# Altium footprint library SolderJumper.PcbLib: 8 footprints
Each footprint in its own frame and in the unit in brackets; x right, y up, seen from the top. Pads: shape width x height; smd on the part's side, far side on the other; paste and mask are expansions set on the pad; w line width, h text height; cw(c..) or ccw(c..) is an arc to the next point about the centre after c.
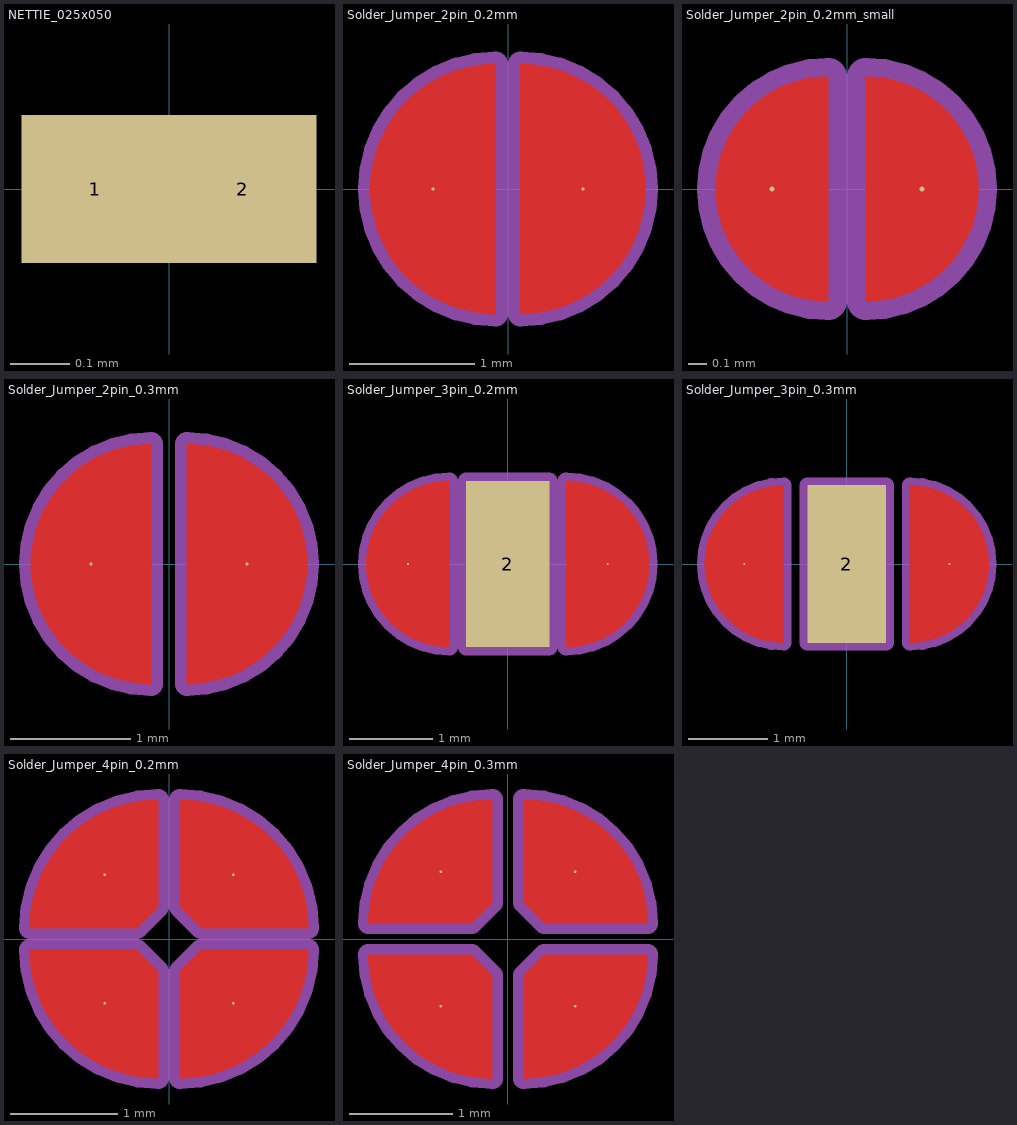
[diagram p0: the footprints below, top view; thin cyan lines are the x and y axes]

## NETTIE_025x050 [mm]
pads (2):
  rect 0.25x0.25 smd paste-2539.97 mask+0.102: 1(-0.125,0) 2(0.125,0)

## Solder_Jumper_2pin_0.2mm [mil] "Solder jumper with two pins with a spacing of 0.2mm"
pads (2):
  round 1 smd paste-99999: 1(-23.62,0) 2(23.62,0)
Top Layer:
  region: 3.94,-39.37 6.52,-39.37 11.63,-38.7 16.62,-37.36 21.39,-35.39 25.86,-32.81 29.95,-29.66 33.6,-26.01 36.74,-21.92 39.32,-17.45 41.3,-12.68 42.63,-7.7 43.31,-2.58 43.31,0 43.31,2.58 42.63,7.7 41.3,12.68 39.32,17.45 36.74,21.92 33.6,26.01 29.95,29.66 25.86,32.81 21.39,35.39 16.62,37.36 11.63,38.7 6.52,39.37 3.94,39.37
  region: -3.94,39.37 -6.52,39.37 -11.63,38.7 -16.62,37.36 -21.39,35.39 -25.86,32.81 -29.95,29.66 -33.6,26.01 -36.74,21.92 -39.32,17.45 -41.3,12.68 -42.63,7.7 -43.31,2.58 -43.31,0 -43.31,-2.58 -42.63,-7.7 -41.3,-12.68 -39.32,-17.45 -36.74,-21.92 -33.6,-26.01 -29.95,-29.66 -25.86,-32.81 -21.39,-35.39 -16.62,-37.36 -11.63,-38.7 -6.52,-39.37 -3.94,-39.37
Top Solder:
  region: -3.94,43.31 -8.2,43.31 -16.57,41.64 -24.45,38.38 -31.54,33.64 -37.58,27.61 -42.32,20.51 -45.58,12.63 -47.24,4.27 -47.24,0 -47.24,-4.27 -45.58,-12.63 -42.32,-20.51 -37.58,-27.61 -31.54,-33.64 -24.45,-38.38 -16.57,-41.64 -8.2,-43.31 -3.94,-43.31 3.94,-43.31 8.2,-43.31 16.57,-41.64 24.45,-38.38 31.54,-33.64 37.58,-27.61 42.32,-20.51 45.58,-12.63 47.24,-4.27 47.24,0 47.24,4.27 45.58,12.63 42.32,20.51 37.58,27.61 31.54,33.64 24.45,38.38 16.57,41.64 8.2,43.31 3.94,43.31
Top Assembly:
  lines w7.87: -43.31,0 ccw(c-3.94,0) -3.94,-39.37 -3.94,39.37 ccw(c-3.94,0) -43.31,0 ; 3.94,-39.37 ccw(c3.94,0) 43.31,0 ccw(c3.94,0) 3.94,39.37 3.94,-39.37

## Solder_Jumper_2pin_0.2mm_small [mil] "Solder jumper with two pins with a spacing of 0.2mm"
pads (2):
  round 1 smd paste-99999: 1(-15.75,0) 2(15.75,0)
Top Layer:
  region: -3.94,23.62 -5.49,23.62 -8.56,23.22 -11.55,22.42 -14.41,21.23 -17.09,19.68 -19.55,17.8 -21.74,15.61 -23.62,13.15 -25.17,10.47 -26.35,7.61 -27.16,4.62 -27.56,1.55 -27.56,0 -27.56,-1.55 -27.16,-4.62 -26.35,-7.61 -25.17,-10.47 -23.62,-13.15 -21.74,-15.61 -19.55,-17.8 -17.09,-19.68 -14.41,-21.23 -11.55,-22.42 -8.56,-23.22 -5.49,-23.62 -3.94,-23.62
  region: 3.94,-23.62 5.49,-23.62 8.56,-23.22 11.55,-22.42 14.41,-21.23 17.09,-19.68 19.55,-17.8 21.73,-15.61 23.62,-13.15 25.17,-10.47 26.35,-7.61 27.15,-4.62 27.56,-1.55 27.56,0 27.56,1.55 27.15,4.62 26.35,7.61 25.17,10.47 23.62,13.15 21.74,15.61 19.55,17.8 17.09,19.68 14.41,21.23 11.55,22.42 8.56,23.22 5.49,23.62 3.94,23.62
Top Solder:
  region: -3.94,27.56 -6.65,27.56 -11.98,26.51 -17,24.43 -21.52,21.42 -25.36,17.58 -28.37,13.06 -30.45,8.04 -31.5,2.71 -31.5,0 -31.5,-2.71 -30.44,-8.04 -28.36,-13.05 -25.35,-17.57 -21.51,-21.41 -16.99,-24.42 -11.98,-26.5 -6.65,-27.56 -3.94,-27.56 3.94,-27.56 6.65,-27.56 11.98,-26.5 16.99,-24.42 21.5,-21.41 25.34,-17.57 28.36,-13.05 30.44,-8.04 31.5,-2.71 31.5,0 31.5,2.71 30.44,8.04 28.36,13.05 25.34,17.57 21.51,21.41 16.99,24.42 11.98,26.5 6.65,27.56 3.94,27.56
Top Assembly:
  lines w7.87: -3.94,23.62 ccw(c-3.94,0) -27.56,0 ccw(c-3.94,0) -3.94,-23.62 -3.94,23.62 ; -3.94,23.62 ccw(c-3.94,23.62) -3.94,23.62 ; -3.94,23.62 -3.94,23.62 ; 3.94,23.62 cw(c3.94,0) 27.56,0 cw(c3.94,0) 3.94,-23.62 3.94,23.62 ; 3.94,23.62 ccw(c3.94,23.62) 3.94,23.62 ; 3.94,23.62 3.94,23.62

## Solder_Jumper_2pin_0.3mm [mil] "Solder jumper with two pins with a spacing of 0.3mm"
pads (2):
  round 1 smd paste-99999: 1(-25.59,0) 2(25.59,0)
Top Layer:
  region: 5.91,-39.37 8.49,-39.37 13.6,-38.7 18.59,-37.36 23.36,-35.39 27.82,-32.81 31.92,-29.66 35.57,-26.01 38.71,-21.92 41.29,-17.45 43.27,-12.68 44.6,-7.7 45.28,-2.58 45.28,0 45.28,2.58 44.6,7.7 43.27,12.68 41.29,17.45 38.71,21.92 35.57,26.01 31.92,29.66 27.82,32.81 23.36,35.39 18.59,37.36 13.6,38.7 8.49,39.37 5.91,39.37
  region: -5.91,39.37 -8.49,39.37 -13.6,38.7 -18.59,37.36 -23.36,35.39 -27.83,32.81 -31.92,29.66 -35.57,26.01 -38.71,21.92 -41.29,17.45 -43.27,12.68 -44.6,7.7 -45.28,2.58 -45.28,0 -45.28,-2.58 -44.6,-7.7 -43.27,-12.68 -41.29,-17.45 -38.71,-21.92 -35.57,-26.01 -31.92,-29.66 -27.83,-32.81 -23.36,-35.39 -18.59,-37.36 -13.6,-38.7 -8.49,-39.37 -5.91,-39.37
Top Solder:
  region: -5.9,43.31 -10.17,43.31 -18.54,41.64 -26.42,38.38 -33.51,33.64 -39.54,27.61 -44.28,20.51 -47.55,12.63 -49.21,4.26 -49.21,0 -49.21,-4.27 -47.55,-12.63 -44.28,-20.51 -39.54,-27.61 -33.51,-33.64 -26.42,-38.38 -18.54,-41.64 -10.17,-43.31 -5.91,-43.31 -5.9,-43.31 5.91,-43.31 10.17,-43.31 18.54,-41.64 26.42,-38.38 33.51,-33.64 39.54,-27.61 44.28,-20.51 47.55,-12.63 49.21,-4.26 49.21,0 49.21,4.27 47.55,12.63 44.28,20.51 39.54,27.61 33.51,33.64 26.42,38.38 18.54,41.64 10.17,43.31 5.91,43.31
Top Assembly:
  lines w7.87: -5.91,39.37 ccw(c-5.91,0) -45.28,0 ccw(c-5.91,0) -5.91,-39.37 -5.91,39.37 ; -5.91,39.37 -5.91,39.37 ; 5.91,39.37 cw(c5.91,0) 45.28,0 cw(c5.91,0) 5.91,-39.37 5.91,39.37 ; 5.91,39.37 ccw(c5.91,39.37) 5.91,39.37 ; 5.91,39.37 5.91,39.37

## Solder_Jumper_3pin_0.2mm [mm] "Solder jumper with three pins with a spacing of 0.2mm"
pads (3):
  round 0.025 smd paste-2539.97: 1(-1.2,0) 3(1.2,0)
  rrect1% 1x2 smd paste-2539.97: 2(0,0)
Top Layer:
  region: 0.7,-1 0.766,-1 0.896,-0.983 1.022,-0.949 1.143,-0.899 1.257,-0.833 1.361,-0.753 1.453,-0.661 1.533,-0.557 1.599,-0.443 1.649,-0.322 1.683,-0.196 1.7,-0.066 1.7,0 1.7,0.066 1.683,0.196 1.649,0.322 1.599,0.443 1.533,0.557 1.453,0.661 1.361,0.753 1.257,0.833 1.143,0.899 1.022,0.949 0.896,0.983 0.766,1 0.7,1
  region: -0.7,1 -0.766,1 -0.896,0.983 -1.022,0.949 -1.143,0.899 -1.257,0.833 -1.361,0.753 -1.453,0.661 -1.533,0.557 -1.599,0.443 -1.649,0.322 -1.683,0.196 -1.7,0.066 -1.7,0 -1.7,-0.066 -1.683,-0.196 -1.649,-0.322 -1.599,-0.443 -1.533,-0.557 -1.453,-0.661 -1.361,-0.753 -1.257,-0.833 -1.143,-0.899 -1.022,-0.949 -0.896,-0.983 -0.766,-1 -0.7,-1
Top Solder:
  region: -0.7,1.1 -0.808,1.1 -1.021,1.058 -1.221,0.975 -1.401,0.854 -1.554,0.701 -1.675,0.521 -1.758,0.321 -1.8,0.108 -1.8,0 -1.8,-0.108 -1.758,-0.321 -1.675,-0.521 -1.554,-0.701 -1.401,-0.854 -1.221,-0.975 -1.021,-1.058 -0.808,-1.1 -0.7,-1.1 0.8,-1.1 0.903,-1.095 1.104,-1.045 1.292,-0.957 1.458,-0.834 1.597,-0.68 1.704,-0.503 1.774,-0.308 1.805,-0.103 1.8,0 1.8,0.108 1.758,0.321 1.675,0.521 1.554,0.701 1.401,0.854 1.221,0.975 1.021,1.058 0.808,1.1 0.7,1.1
Top Assembly:
  lines w0.2: -1.7,0 ccw(c-0.7,0) -0.7,-1 -0.7,1 ccw(c-0.7,0) -1.7,0 ; -0.5,-1 0.5,-1 0.5,1 -0.5,1 -0.5,-1 ; 0.7,-1 ccw(c0.7,0) 1.7,0 ccw(c0.7,0) 0.7,1 0.7,-1

## Solder_Jumper_3pin_0.3mm [mm] "Solder jumper with three pins with a spacing of 0.3mm"
pads (3):
  round 0.025 smd paste-2539.97: 1(-1.3,0) 3(1.3,0)
  rrect1% 1x2 smd paste-2539.97: 2(0,0)
Top Layer:
  region: 0.8,-1 0.866,-1 0.996,-0.983 1.122,-0.949 1.243,-0.899 1.357,-0.833 1.461,-0.753 1.553,-0.661 1.633,-0.557 1.699,-0.443 1.749,-0.322 1.783,-0.196 1.8,-0.066 1.8,0 1.8,0.066 1.783,0.196 1.749,0.322 1.699,0.443 1.633,0.557 1.553,0.661 1.461,0.753 1.357,0.833 1.243,0.899 1.122,0.949 0.996,0.983 0.866,1 0.8,1
  region: -0.8,1 -0.866,1 -0.996,0.983 -1.122,0.949 -1.243,0.899 -1.357,0.833 -1.461,0.753 -1.553,0.661 -1.633,0.557 -1.699,0.443 -1.749,0.322 -1.783,0.196 -1.8,0.066 -1.8,0 -1.8,-0.066 -1.783,-0.196 -1.749,-0.322 -1.699,-0.443 -1.633,-0.557 -1.553,-0.661 -1.461,-0.753 -1.357,-0.833 -1.243,-0.899 -1.122,-0.949 -0.996,-0.983 -0.866,-1 -0.8,-1
Top Solder:
  region: -0.8,1.1 -0.908,1.1 -1.121,1.058 -1.321,0.975 -1.501,0.854 -1.654,0.701 -1.775,0.521 -1.858,0.321 -1.9,0.108 -1.9,0 -1.9,-0.108 -1.858,-0.321 -1.775,-0.521 -1.654,-0.701 -1.501,-0.854 -1.321,-0.975 -1.121,-1.058 -0.908,-1.1 -0.8,-1.1 0.9,-1.1 1.003,-1.095 1.204,-1.045 1.392,-0.957 1.558,-0.834 1.697,-0.68 1.804,-0.503 1.874,-0.308 1.905,-0.103 1.9,0 1.9,0.108 1.858,0.321 1.775,0.521 1.654,0.701 1.501,0.854 1.321,0.975 1.121,1.058 0.908,1.1 0.8,1.1
Top Assembly:
  lines w0.2: -1.8,0 cw(c-0.8,0) -0.8,1 -0.8,-1 cw(c-0.8,0) -1.8,0 ; -0.5,-1 -0.5,1 0.5,1 0.5,-1 -0.5,-1 ; 0.8,-1 ccw(c0.8,0) 1.8,0 ccw(c0.8,0) 0.8,1 0.8,-1

## Solder_Jumper_4pin_0.2mm [mm] "Solder jumper with four pins with a spacing of 0.2mm"
pads (4):
  round 0.025 smd paste-2539.97: 1(-0.6,0.6) 2(0.6,0.6) 3(-0.6,-0.6) 4(0.6,-0.6)
Top Layer:
  region: 1.3,0.1 1.3,0.159 1.288,0.276 1.265,0.392 1.231,0.505 1.186,0.614 1.131,0.718 1.065,0.816 0.99,0.907 0.907,0.99 0.816,1.065 0.718,1.131 0.614,1.186 0.505,1.231 0.392,1.265 0.276,1.288 0.159,1.3 0.1,1.3 0.1,0.3 0.3,0.1
  region: -0.1,1.3 -0.159,1.3 -0.276,1.288 -0.392,1.265 -0.505,1.231 -0.614,1.186 -0.718,1.131 -0.816,1.065 -0.907,0.99 -0.99,0.907 -1.065,0.816 -1.131,0.718 -1.186,0.614 -1.231,0.505 -1.265,0.392 -1.288,0.276 -1.3,0.159 -1.3,0.1 -0.3,0.1 -0.1,0.3
  region: 0.1,-1.3 0.159,-1.3 0.276,-1.288 0.392,-1.265 0.505,-1.231 0.614,-1.186 0.718,-1.131 0.816,-1.065 0.907,-0.99 0.99,-0.907 1.065,-0.816 1.131,-0.718 1.186,-0.614 1.231,-0.505 1.265,-0.392 1.288,-0.276 1.3,-0.159 1.3,-0.1 0.3,-0.1 0.1,-0.3
  region: -1.3,-0.1 -1.3,-0.159 -1.288,-0.276 -1.265,-0.392 -1.231,-0.505 -1.186,-0.614 -1.131,-0.718 -1.065,-0.816 -0.99,-0.907 -0.907,-0.99 -0.816,-1.065 -0.718,-1.131 -0.614,-1.186 -0.505,-1.231 -0.392,-1.265 -0.276,-1.288 -0.159,-1.3 -0.1,-1.3 -0.1,-0.3 -0.3,-0.1
Top Solder:
  region: -0.1,1.4 -0.228,1.4 -0.479,1.35 -0.716,1.252 -0.929,1.11 -1.11,0.929 -1.252,0.716 -1.35,0.479 -1.4,0.228 -1.4,0.1 -1.4,-0.1 -1.4,-0.228 -1.35,-0.479 -1.252,-0.716 -1.11,-0.929 -0.929,-1.11 -0.716,-1.252 -0.479,-1.35 -0.228,-1.4 -0.1,-1.4 0.1,-1.4 0.228,-1.4 0.479,-1.35 0.716,-1.252 0.929,-1.11 1.11,-0.929 1.252,-0.716 1.35,-0.479 1.4,-0.228 1.4,-0.1 1.4,0.1 1.4,0.228 1.35,0.479 1.252,0.716 1.11,0.929 0.929,1.11 0.716,1.252 0.479,1.35 0.228,1.4 0.1,1.4
Top Assembly:
  lines w0.2: -0.1,-1.3 cw(c-0.1,-0.1) -1.3,-0.1 -0.3,-0.1 -0.1,-0.3 -0.1,-1.3 ; -0.1,-1.3 -0.1,-1.3 ; 0.1,1.3 cw(c0.1,0.1) 1.3,0.1 ; 0.1,1.3 0.1,1.3 ; 0.1,1.3 0.1,0.3 0.3,0.1 1.3,0.1 ; 1.3,0.1 ccw(c1.3,0.1) 1.3,0.1 ; -1.3,0.1 cw(c-0.1,0.1) -0.1,1.3 -0.1,0.3 -0.3,0.1 -1.3,0.1 ; 0.1,-1.3 ccw(c0.1,-0.1) 1.3,-0.1 0.3,-0.1 0.1,-0.3 0.1,-1.3

## Solder_Jumper_4pin_0.3mm [mm] "Solder jumper with four pins with a spacing of 0.3mm"
pads (4):
  round 0.025 smd paste-2539.97: 1(-0.65,0.65) 2(0.65,0.65) 3(-0.65,-0.65) 4(0.65,-0.65)
Top Layer:
  region: 1.35,0.15 1.35,0.209 1.338,0.326 1.315,0.442 1.281,0.555 1.236,0.664 1.181,0.768 1.115,0.866 1.04,0.957 0.957,1.04 0.866,1.115 0.768,1.181 0.664,1.236 0.555,1.281 0.442,1.315 0.326,1.338 0.209,1.35 0.15,1.35 0.15,0.35 0.35,0.15
  region: -0.15,1.35 -0.209,1.35 -0.326,1.338 -0.442,1.315 -0.555,1.281 -0.664,1.236 -0.768,1.181 -0.866,1.115 -0.957,1.04 -1.04,0.957 -1.115,0.866 -1.181,0.768 -1.236,0.664 -1.281,0.555 -1.315,0.442 -1.338,0.326 -1.35,0.209 -1.35,0.15 -0.35,0.15 -0.15,0.35
  region: 0.15,-1.35 0.209,-1.35 0.326,-1.338 0.442,-1.315 0.555,-1.281 0.664,-1.236 0.768,-1.181 0.866,-1.115 0.957,-1.04 1.04,-0.957 1.115,-0.866 1.181,-0.768 1.236,-0.664 1.281,-0.555 1.315,-0.442 1.338,-0.326 1.35,-0.209 1.35,-0.15 0.35,-0.15 0.15,-0.35
  region: -1.35,-0.15 -1.35,-0.209 -1.338,-0.326 -1.315,-0.442 -1.281,-0.555 -1.236,-0.664 -1.181,-0.768 -1.115,-0.866 -1.04,-0.957 -0.957,-1.04 -0.866,-1.115 -0.768,-1.181 -0.664,-1.236 -0.555,-1.281 -0.442,-1.315 -0.326,-1.338 -0.209,-1.35 -0.15,-1.35 -0.15,-0.35 -0.35,-0.15
Top Solder:
  region: -0.15,1.45 -0.278,1.45 -0.529,1.4 -0.766,1.302 -0.979,1.16 -1.16,0.979 -1.302,0.766 -1.4,0.529 -1.45,0.278 -1.45,0.15 -1.45,-0.15 -1.45,-0.278 -1.4,-0.529 -1.302,-0.766 -1.16,-0.979 -0.979,-1.16 -0.766,-1.302 -0.529,-1.4 -0.278,-1.45 -0.15,-1.45 0.15,-1.45 0.278,-1.45 0.529,-1.4 0.766,-1.302 0.979,-1.16 1.16,-0.979 1.302,-0.766 1.4,-0.529 1.45,-0.278 1.45,-0.15 1.45,0.15 1.45,0.278 1.4,0.529 1.302,0.766 1.16,0.979 0.979,1.16 0.766,1.302 0.529,1.4 0.278,1.45 0.15,1.45
Top Assembly:
  lines w0.2: -1.35,0.15 cw(c-0.15,0.15) -0.15,1.35 -0.15,0.35 -0.35,0.15 -1.35,0.15 ; -1.35,0.15 -1.35,0.15 ; -0.15,-1.35 cw(c-0.15,-0.15) -1.35,-0.15 -0.35,-0.15 -0.15,-0.35 -0.15,-1.35 ; -0.15,-1.35 -0.15,-1.35 ; 0.15,1.35 cw(c0.15,0.15) 1.35,0.15 0.35,0.15 0.15,0.35 0.15,1.35 ; 0.15,1.35 0.15,1.35 ; 1.35,-0.15 cw(c0.15,-0.15) 0.15,-1.35 0.15,-0.35 0.35,-0.15 1.35,-0.15 ; 1.35,-0.15 1.35,-0.15